# Altium schematic symbol library LM5185QPWPRQ1.SchLib: 1 symbol
Pins are listed as number, name and electrical type; pins without a type are passive.

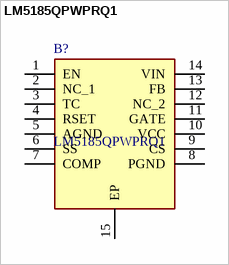
[diagram p0: symbol LM5185QPWPRQ1]

## LM5185QPWPRQ1
designator B?
Switching Controllers PSR FLYBUCK CONTRL WITH EXTERNAL MOSFET; Manufacturer_Name: Texas Instruments; Geometry.Height: 1.2mm; Mouser Part Number: 595-LM5185QPWPRQ1; Mouser Price/Stock: https://www.mouser.co.uk/ProductDetail/Texas-Instruments/LM5185QPWPRQ1?qs=Z%252BL2brAPG1K5xXl7I70Yhw%3D%3D; Manufacturer_Part_Number: LM5185QPWPRQ1; Datasheet Link: https://www.mouser.in/ProductDetail/Texas-Instruments/LM5185QPWPRQ1?qs=Z%252BL2brAPG1K5xXl7I70Yhw%3D%3D
footprint SOP65P640X120-15N
pins: 1 EN, 2 NC_1, 3 TC, 4 RSET, 5 AGND, 6 SS, 7 COMP, 8 PGND, 9 CS, 10 VCC, 11 GATE, 12 NC_2, 13 FB, 14 VIN, 15 EP